# Altium schematic symbol library Button.SchLib: 2 symbols
Pins are listed as number, name and electrical type; pins without a type are passive.

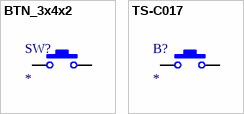
[diagram p0: symbols BTN_3x4x2 to TS-C017]

## BTN_3x4x2
designator SW?
Switch Micro SMD 3x4x2 mm Unbranded; Supplier Link: https://aliexpress.ru/item/32855106640.html; Supplier: AliExpress
footprint BTN_3x4x2 (Switch Micro SMD 3x4x2 mm Unbranded)
pins: 1, 2

## TS-C017
designator B?
Micro Button
footprint TS-C017 (Button Side Micro 4.5x4.5x3 mm 3 Pin)
pins: 1, 2